# Altium integrated library FQP30N06L (Transistor).IntLib: 1 symbol
Pins are listed as number, name and electrical type; pins without a type are passive.

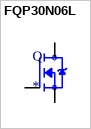
[diagram p0: symbol FQP30N06L]

## FQP30N06L
designator Q
N-Channel 60V 32A _Tc_ 79W _Tc_ Through Hole TO-220-3; MF: ON Semiconductor; MP: FQP30N06L; Package: TO-220 ON Semiconductor; Price: None; Availability: Unavailable; SnapEDA_Link: https://www.snapeda.com/parts/FQP30N06L/ON%20Semiconductor/view-part/1413126/?ref=snap; Value: *
footprint TO220V
pins: 1 G, 2 D, 3 S